# EAGLE library part MCP4728 (library RitLaunchInitiative)
4 channel I2C DAC
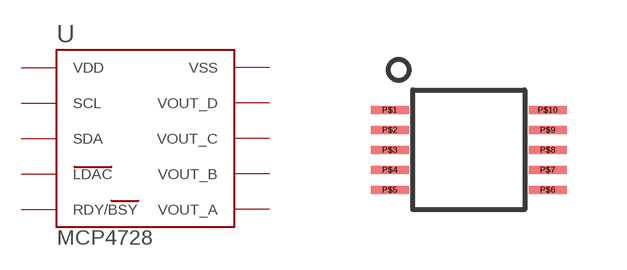
[diagram p11: symbol with the pads of 10-MSOP; footprint 10-MSOP]

Designator prefix U

## MCP4728  [10-MSOP]
P$1  VDD
P$2  SCL
P$3  SDA
P$4  LDAC
P$5  RDY/BSY
P$6  VOUT_A
P$7  VOUT_B
P$8  VOUT_C
P$9  VOUT_D
P$10  VSS

## Footprint 10-MSOP (pad centres in mm)
smd 0.95 x 0.2: P$1 -1.975,1; P$2 -1.975,0.5; P$3 -1.975,0; P$4 -1.975,-0.5; P$5 -1.975,-1; P$6 1.975,-1; P$7 1.975,-0.5; P$8 1.975,0; P$9 1.975,0.5; P$10 1.975,1